# Altium footprint library MHPC1x11.PcbLib: 2 footprints
Each footprint in its own frame and in the unit in brackets; x right, y up, seen from the top. Pads: shape width x height; smd on the part's side, far side on the other; paste and mask are expansions set on the pad; w line width, h text height; cw(c..) or ccw(c..) is an arc to the next point about the centre after c.
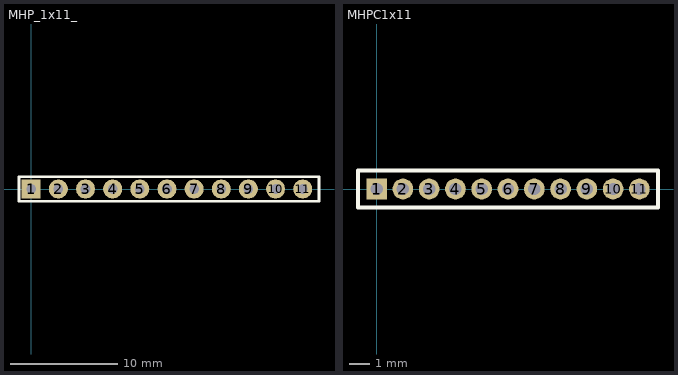
[diagram p0: the footprints below, top view; thin cyan lines are the x and y axes]

## MHP_1x11_ [mil]
pads (11):
  rect 70x70 hole 35.43 mask+4: 1(0,0)
  round 70 hole 35.43 mask+4: 2(100,0) 3(200,0) 4(300,0) 5(400,0) 6(500,0) 7(600,0) 8(700,0) 9(800,0) 10(900,0) 11(1000,0)
Top Overlay:
  lines w10: -45,-45 1060,-45 1060,45 -45,45 -45,-45

## MHPC1x11 [mm]
pads (11):
  rect 1x1 hole 0.6: 1(0,0)
  round 1 hole 0.6: 2(1.27,0) 3(2.54,0) 4(3.81,0) 5(5.08,0) 6(6.35,0) 7(7.62,0) 8(8.89,0) 9(10.16,0) 10(11.43,0) 11(12.7,0)
Top Overlay:
  lines w0.2: -0.9,-0.9 13.6,-0.9 13.6,0.9 -0.9,0.9 -0.9,-0.9